# Altium footprint library REIS_PCB.PcbLib: 15 footprints
Each footprint in its own frame and in the unit in brackets; x right, y up, seen from the top. Pads: shape width x height; smd on the part's side, far side on the other; paste and mask are expansions set on the pad; w line width, h text height; cw(c..) or ccw(c..) is an arc to the next point about the centre after c.
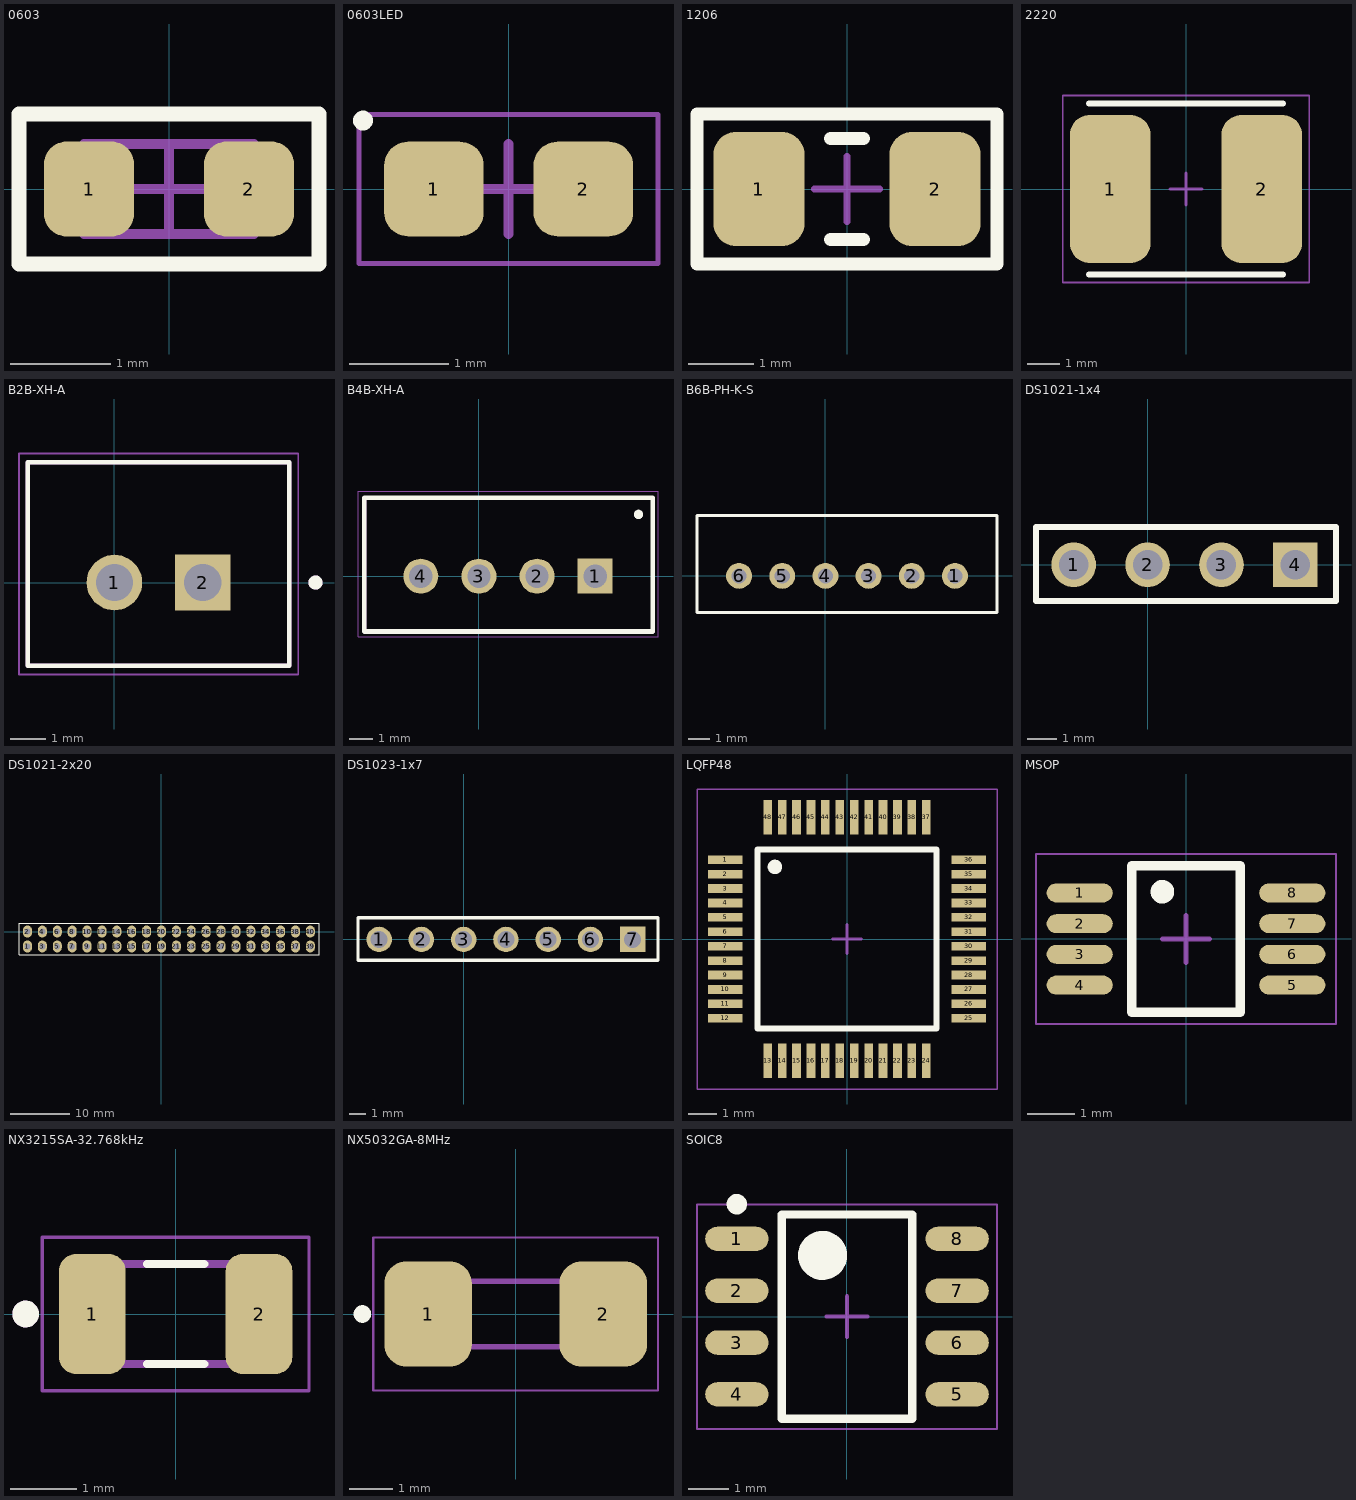
[diagram p0: the footprints below, top view; thin cyan lines are the x and y axes]

## 0603 [mm] "Chip Capacitor, 2-Leads, Body 1,60x0,80mm, IPC Medium Density"
height 0.55
pads (2):
  rrect50% 0.9x0.95 smd: 1(-0.8,0) 2(0.8,0)
Top Overlay:
  lines w0.15: -1.5,-0.75 -1.5,0.75 1.5,0.75 1.5,-0.75 -1.5,-0.75
Mechanical 13:
  lines w0.1: -0.85,-0.45 0.85,-0.45 0.85,0.45 -0.85,0.45 -0.85,-0.45
Mechanical 15:
  lines w0.05: -1.5,-0.75 1.5,-0.75 1.5,0.75 -1.5,0.75 -1.5,-0.75
  lines w0.1: -0.45,0 0.45,0 ; 0,-0.45 0,0.45
3D body "CAPC1608X06N(0603).step": height 0.55, standoff 0, extent -0.85,-0.45 0.85,0.45

## 0603LED [mm]
height 0.9
pads (2):
  rrect50% 1x0.95 smd: 1(-0.75,0) 2(0.75,0)
Top Overlay:
  circle w0.1: c-1.462,0.687 r0.05
Mechanical 15:
  lines w0.05: -1.5,-0.75 -1.5,0.75 1.5,0.75 1.5,-0.75 -1.5,-0.75
  lines w0.1: -0.45,0 0.45,0 ; 0,-0.45 0,0.45
3D body "0603 Chip SMD LED (1.6x0.8mm).STEP": height 0.55, standoff -0.03, extent -0.8,-0.4 0.8,0.4

## 1206 [mm]
height 1.6
pads (2):
  rrect50% 1.4x1.75 smd: 1(-1.35,0) 2(1.35,0)
Top Overlay:
  lines w0.2: -0.25,-0.775 0.25,-0.775 ; -0.25,0.775 0.25,0.775 ; -2.3,-1.15 2.3,-1.15 2.3,1.15 -2.3,1.15 -2.3,-1.15
Mechanical 15:
  lines w0.05: -2.3,-1.15 -2.3,1.15 2.3,1.15 2.3,-1.15 -2.3,-1.15
  lines w0.1: -0.5,0 0.5,0 ; 0,-0.5 0,0.5
3D body "1206.step": height 1.6, standoff 0, extent -1.65,-0.85 1.65,0.85

## 2220 [mm]
height 5
pads (2):
  rrect50% 2.5x4.6 smd: 1(-2.35,0) 2(2.35,0)
Top Overlay:
  lines w0.2: -3,-2.65 3,-2.65 ; -3,2.65 3,2.65
Mechanical 15:
  lines w0.05: -3.825,-2.9 3.825,-2.9 3.825,2.9 -3.825,2.9 -3.825,-2.9
  lines w0.1: -0.5,0 0.5,0 ; 0,-0.5 0,0.5
3D body "2220.step": height 5.1, standoff 0, extent -2.95,-2.5 2.95,2.5

## B2B-XH-A [mm]
height 7
pads (2):
  round 1.575 hole 1.05: 1(0,0)
  rect 1.575x1.575 / inner round 1.575 / far side rect 1.575x1.575 hole 1.05: 2(2.5,0)
Top Overlay:
  circle w0.2: c5.69,0 r0.1
  lines w0.127: -2.45,-2.35 -2.45,3.4 4.95,3.4 4.95,-2.35 -2.45,-2.35
Mechanical 13:
  circle w0.2: c5.69,0 r0.1
  lines w0.127: -2.45,-2.35 -2.45,3.4 4.95,3.4 4.95,-2.35 -2.45,-2.35
Mechanical 15:
  lines w0.05: -2.7,-2.6 5.2,-2.6 5.2,3.65 -2.7,3.65 -2.7,-2.6
3D body "B2B-XH-A.STEP": height 7, standoff -3.4, extent -2.468,-2.329 4.932,3.421

## B4B-XH-A [mm]
height 7
pads (4):
  rect 1.508x1.508 / inner round 1.508 / far side rect 1.508x1.508 hole 1: 1(5,0)
  round 1.508 hole 1: 2(2.5,0) 3(0,0) 4(-2.5,0)
Top Overlay:
  circle w0.2: c6.863,2.659 r0.1
  lines w0.2: -4.925,-2.375 -4.925,3.375 7.475,3.375 7.475,-2.375 -4.925,-2.375
Mechanical 13:
  lines w0.127: -4.9,-2.4 -4.9,3.35 7.5,3.35 7.5,-2.4 -4.9,-2.4
Mechanical 15:
  lines w0.05: -5.2,-2.6 -5.2,3.65 7.7,3.65 7.7,-2.6 -5.2,-2.6
3D body "B4B-XH-A.step": height 7, standoff -3.4, extent -4.95,-2.35 7.45,3.4

## B6B-PH-K-S [mm]
pads (6):
  round 1.2 hole 0.7: 1(6,0) 2(4,0) 3(2,0) 4(0,0) 5(-2,0) 6(-4,0)
Top Overlay:
  lines w0.15: -5.95,-1.7 -5.95,2.8 7.95,2.8 7.95,-1.7 -5.95,-1.7
3D body "B6B-PH-K-S-LF-SN.STEP": height 6, standoff -3.4, extent -5.95,-1.7 7.95,2.8

## DS1021-1x4 [mm]
pads (4):
  round 1.508 hole 1: 1(-2.5,0) 2(0,0) 3(2.5,0)
  rect 1.508x1.508 / inner round 1.508 / far side rect 1.508x1.508 hole 1: 4(5,0)
Top Overlay:
  lines w0.2: -3.775,-1.225 -3.775,1.275 6.375,1.275 6.375,-1.225 -3.775,-1.225
3D body "PLS-4.step": height 8.6, standoff -3, extent -3.77,-1.27 6.39,1.27

## DS1021-2x20 [mm]
pads (40):
  oval 1.508x2 hole 1: 1(-22.5,-2.5) 2(-22.5,0) 3(-20,-2.5) 4(-20,0) 5(-17.5,-2.5) 6(-17.5,0) 7(-15,-2.5) 8(-15,0) 9(-12.5,-2.5) 10(-12.5,0) 11(-10,-2.5) 12(-10,0) 13(-7.5,-2.5) 14(-7.5,0) 15(-5,-2.5) 16(-5,0) 17(-2.5,-2.5) 18(-2.5,0) 19(0,-2.5) 20(0,0) 21(2.5,-2.5) 22(2.5,0) 23(5,-2.5) 24(5,0) 25(7.5,-2.5) 26(7.5,0) 27(10,-2.5) 28(10,0) 29(12.5,-2.5) 30(12.5,0) 31(15,-2.5) 32(15,0) 33(17.5,-2.5) 34(17.5,0) 35(20,-2.5) 36(20,0) 37(22.5,-2.5) 38(22.5,0) 39(25,-2.5) 40(25,0)
Top Overlay:
  lines w0.2: -23.925,-3.875 26.45,-3.875 26.45,1.375 -23.925,1.375 -23.925,-3.875
3D body "PLS-4.step": height 8.6, standoff -3, extent -23.818,-1.274 -13.658,1.266
3D body "PLS-4.step": height 8.6, standoff -3, extent -13.818,-1.274 -3.658,1.266
3D body "PLS-4.step": height 8.6, standoff -3, extent -3.818,-1.274 6.342,1.266
3D body "PLS-4.step": height 8.6, standoff -3, extent 6.182,-1.274 16.342,1.266
3D body "PLS-4.step": height 8.6, standoff -3, extent 16.182,-1.274 26.342,1.266
3D body "PLS-4.step": height 8.6, standoff -3, extent -23.818,-3.774 -13.658,-1.234
3D body "PLS-4.step": height 8.6, standoff -3, extent -13.818,-3.774 -3.658,-1.234
3D body "PLS-4.step": height 8.6, standoff -3, extent -3.818,-3.774 6.342,-1.234
3D body "PLS-4.step": height 8.6, standoff -3, extent 6.182,-3.774 16.342,-1.234
3D body "PLS-4.step": height 8.6, standoff -3, extent 16.182,-3.774 26.342,-1.234

## DS1023-1x7 [mm]
pads (7):
  round 1.508 hole 1: 1(-5,0) 2(-2.5,0) 3(0,0) 4(2.5,0) 5(5,0) 6(7.5,0)
  rect 1.508x1.508 / inner round 1.508 / far side rect 1.508x1.508 hole 1: 7(10,0)
Top Overlay:
  lines w0.2: -6.25,-1.225 11.5,-1.225 11.5,1.275 -6.25,1.275 -6.25,-1.225
3D body "PBS-7.step": height 8.5, standoff -3, extent -6.27,-1.27 11.51,1.27

## LQFP48 [mm]
height 1.6
pads (48):
  rect 1.2x0.3 smd: 1(-4.225,2.75) 2(-4.225,2.25) 3(-4.225,1.75) 4(-4.225,1.25) 5(-4.225,0.75) 6(-4.225,0.25) 7(-4.225,-0.25) 8(-4.225,-0.75) 9(-4.225,-1.25) 10(-4.225,-1.75) 11(-4.225,-2.25) 12(-4.225,-2.75) 25(4.225,-2.75) 26(4.225,-2.25) 27(4.225,-1.75) 28(4.225,-1.25) 29(4.225,-0.75) 30(4.225,-0.25) 31(4.225,0.25) 32(4.225,0.75) 33(4.225,1.25) 34(4.225,1.75) 35(4.225,2.25) 36(4.225,2.75)
  rect 0.3x1.2 smd: 13(-2.75,-4.225) 14(-2.25,-4.225) 15(-1.75,-4.225) 16(-1.25,-4.225) 17(-0.75,-4.225) 18(-0.25,-4.225) 19(0.25,-4.225) 20(0.75,-4.225) 21(1.25,-4.225) 22(1.75,-4.225) 23(2.25,-4.225) 24(2.75,-4.225) 37(2.75,4.225) 38(2.25,4.225) 39(1.75,4.225) 40(1.25,4.225) 41(0.75,4.225) 42(0.25,4.225) 43(-0.25,4.225) 44(-0.75,4.225) 45(-1.25,4.225) 46(-1.75,4.225) 47(-2.25,4.225) 48(-2.75,4.225)
Top Overlay:
  circle w0.25: c-2.5,2.5 r0.125
  lines w0.2: -3.1,-3.1 3.1,-3.1 3.1,3.1 -3.1,3.1 -3.1,-3.1
Mechanical 15:
  lines w0.05: -5.2,-5.2 5.2,-5.2 5.2,5.2 -5.2,5.2 -5.2,-5.2
  lines w0.1: -0.5,0 0.5,0 ; 0,-0.5 0,0.5
3D body "LQFP48.step": height 1.6, standoff 0, extent -4.5,-4.5 4.5,4.5

## MSOP [mm]
height 1.1
pads (8):
  oval 1.4x0.4 smd: 1(-2.25,0.975) 2(-2.25,0.325) 3(-2.25,-0.325) 4(-2.25,-0.975) 5(2.25,-0.975) 6(2.25,-0.325) 7(2.25,0.325) 8(2.25,0.975)
Top Overlay:
  circle w0.25: c-0.5,1 r0.125
  lines w0.2: -1.15,-1.55 -1.15,1.55 1.15,1.55 1.15,-1.55 -1.15,-1.55
Mechanical 15:
  lines w0.05: -3.175,-1.8 -3.175,1.8 3.175,1.8 3.175,-1.8 -3.175,-1.8
  lines w0.1: -0.5,0 0.5,0 ; 0,-0.5 0,0.5
3D body "MSOP.step": height 1.1, standoff 0, extent -2.45,-1.55 2.45,1.55

## NX3215SA-32.768kHz [mm]
pads (2):
  rrect50% 1x1.8 smd: 1(-1.25,0) 2(1.25,0)
Top Overlay:
  circle w0.2: c-2.25,0 r0.1
  lines w0.127: -0.43,-0.75 0.43,-0.75 ; -0.43,0.75 0.43,0.75
Mechanical 13:
  circle w0.2: c-2.25,0 r0.1
  lines w0.127: -1.6,-0.75 1.6,-0.75 1.6,0.75 -1.6,0.75 -1.6,-0.75
Mechanical 15:
  lines w0.05: -2,-1.15 2,-1.15 2,1.15 -2,1.15 -2,-1.15
3D body "NX3215SA-32.768K-STD-MUA-14--3DModel-STEP-1.STEP": height 0.9, standoff 0, extent -1.6,-0.75 1.6,0.75

## NX5032GA-8MHz [mm]
pads (2):
  rrect50% 2x2.4 smd: 1(-2,0) 2(2,0)
Top Overlay:
  circle w0.2: c-3.5,0 r0.1
Mechanical 13:
  lines w0.127: -1.6,-0.75 1.6,-0.75 1.6,0.75 -1.6,0.75 -1.6,-0.75
Mechanical 15:
  lines w0.05: -3.25,-1.75 -3.25,1.75 3.25,1.75 3.25,-1.75 -3.25,-1.75
3D body "NX5032GA.x_b": height 1.3, standoff 0, extent -2.5,-1.6 2.5,1.6

## SOIC8 [mm]
height 1.75
pads (8):
  oval 1.55x0.6 smd: 1(-2.7,1.905) 2(-2.7,0.635) 3(-2.7,-0.635) 4(-2.7,-1.905) 5(2.7,-1.905) 6(2.7,-0.635) 7(2.7,0.635) 8(2.7,1.905)
Top Overlay:
  circle w0.6: c-0.6,1.5 r0.3
  circle w0.25: c-2.7,2.755 r0.125
  lines w0.2: -1.6,-2.5 1.6,-2.5 1.6,2.5 -1.6,2.5 -1.6,-2.5
Mechanical 15:
  lines w0.05: -3.675,-2.75 3.675,-2.75 3.675,2.75 -3.675,2.75 -3.675,-2.75
  lines w0.1: -0.5,0 0.5,0 ; 0,-0.5 0,0.5
3D body "SOIC81.step": height 1.75, standoff 0, extent -3,-2.5 3,2.5